# EAGLE library part SLA5074 (library specialparts)
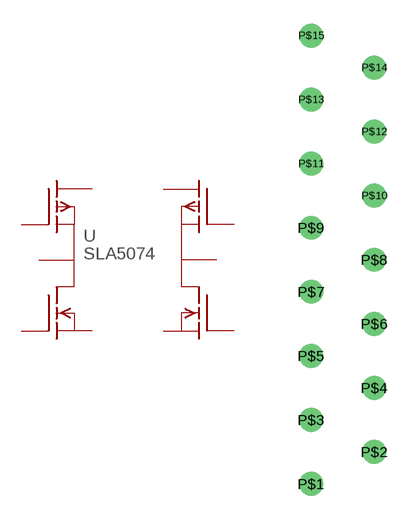
[diagram p0: symbol with the pads of SANKEN; footprint SANKEN]

Designator prefix -

## SLA5074  [SANKEN]
P$1  P$1  pas
P$2  P$2  pas
P$3  P$3  pas
P$4  P$4  pas
P$5  P$5  pas
P$6  P$6  pas
P$7  P$7  pas
P$8  P$8  pas
P$9  P$9  pas
P$10  P$10  pas

## Footprint SANKEN (pad centres in mm)
drill 1: P$1 0,0; P$2 4,2.03; P$3 0,4.06; P$4 4,6.09; P$5 0,8.12; P$6 4,10.15; P$7 0,12.18; P$8 4,14.21; P$9 0,16.24; P$10 4,18.27; P$11 0,20.3; P$12 4,22.33; P$13 0,24.36; P$14 4,26.39; P$15 0,28.42